# EAGLE library part EP204K (library C8051F300)
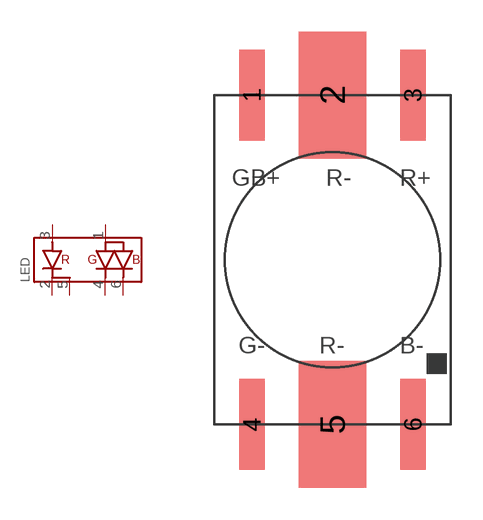
[diagram p21: symbol with the pads of EP204K; footprint EP204K]

Designator prefix LED

## EP204K  [EP204K]
1  P$1  pas
2  P$2  pas
3  P$3  pas
4  P$4  pas
5  P$5  pas
6  P$6  pas

## Footprint EP204K (pad centres in mm)
smd 1.2 x 4.3: 1 -3.81,7.8; 3 3.81,7.8; 4 -3.81,-7.8; 6 3.81,-7.8
smd 3.2 x 6: 2 0,7.8; 5 0,-7.8